# Altium schematic symbol library MCP2551.SchLib: 1 symbol
Pins are listed as number, name and electrical type; pins without a type are passive.

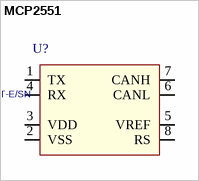
[diagram p0: symbol MCP2551]

## MCP2551
designator U?, comment MCP2551T-E/SN
PDF: http://ww1.microchip.com/downloads/en/DeviceDoc/21667f.pdf; PRICE: 1.42000; BUY_LINK: http://www.digikey.com/product-detail/en/MCP2551T-E%2FSN/MCP2551T-E%2FSNCT-ND/4307904; ID: MCP2551T-E/SN
footprint SO8
pins: 1 TX, 2 VSS, 3 VDD, 4 RX, 5 VREF, 6 CANL, 7 CANH, 8 RS